# EAGLE library part ET1011C2* (library NewSDR)
LSI Gigabit Ethernet Transceiver
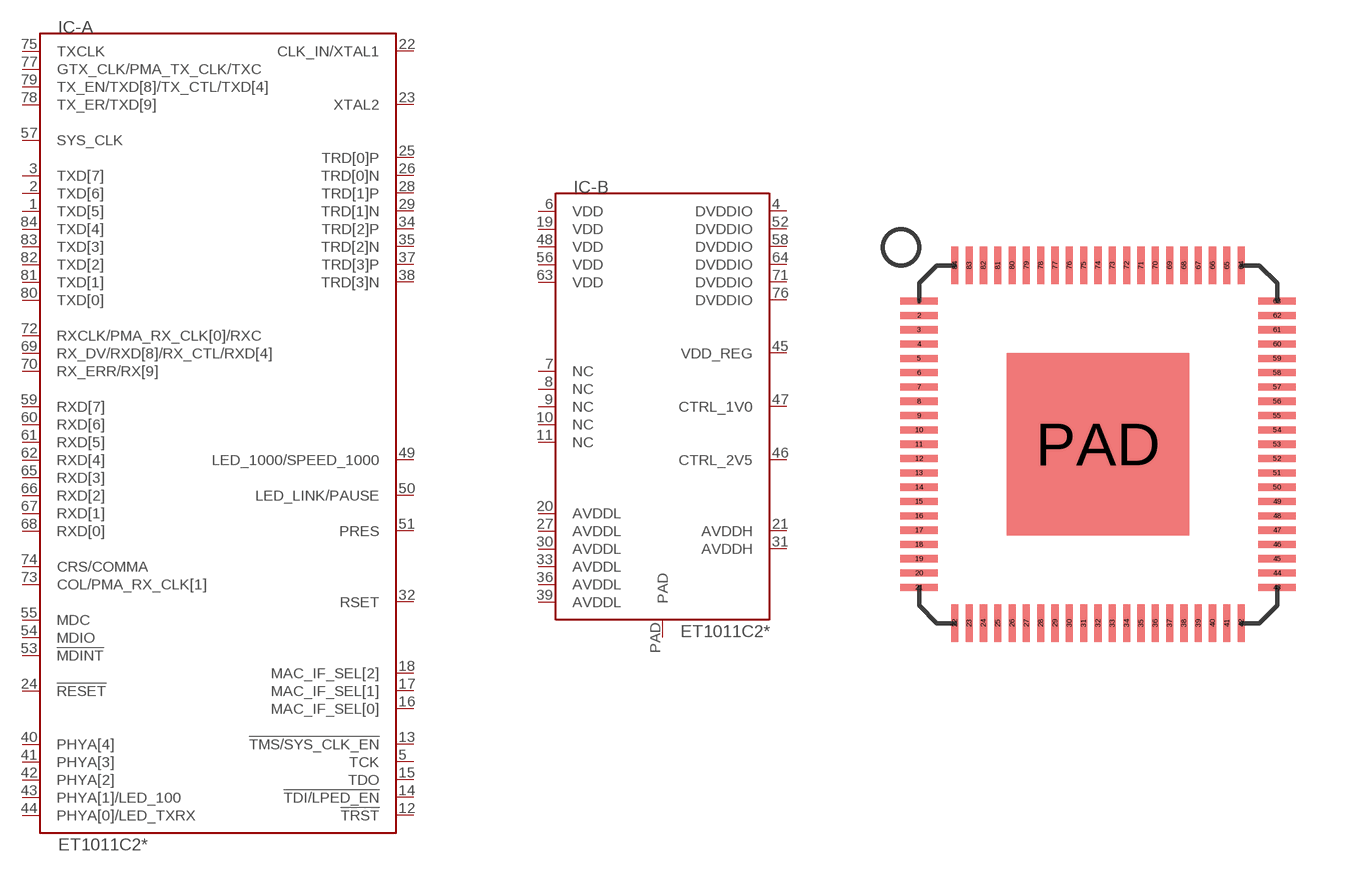
[diagram p171: symbol with the pads of QFN84(MLCC84); footprint QFN84(MLCC84)]

Designator prefix IC; gates -A=ET1011C2-SIG -B=ET1011C2-PWR

## ET1011C2-C-D, ET1011C2-CI-D  [QFN84(MLCC84)]
1  -A:TXD[5]  in
2  -A:TXD[6]  in
3  -A:TXD[7]  in
4  -B:DVDDIO  pwr
5  -A:TCK  in
6  -B:VDD  pwr
7  -B:NC  nc
8  -B:NC  nc
9  -B:NC  nc
10  -B:NC  nc
11  -B:NC  nc
12  -A:!TRST  in
13  -A:!TMS/SYS_CLK_EN
14  -A:!TDI/LPED_EN  in
15  -A:TDO  out
16  -A:MAC_IF_SEL[0]  in
17  -A:MAC_IF_SEL[1]  in
18  -A:MAC_IF_SEL[2]  in
19  -B:VDD  pwr
20  -B:AVDDL  pwr
21  -B:AVDDH  pwr
22  -A:CLK_IN/XTAL1  pas
23  -A:XTAL2  pas
24  -A:!RESET  in
25  -A:TRD[0]P
26  -A:TRD[0]N
27  -B:AVDDL  pwr
28  -A:TRD[1]P
29  -A:TRD[1]N
30  -B:AVDDL  pwr
31  -B:AVDDH  pwr
32  -A:RSET  pas
33  -B:AVDDL  pwr
34  -A:TRD[2]P
35  -A:TRD[2]N
36  -B:AVDDL  pwr
37  -A:TRD[3]P
38  -A:TRD[3]N
39  -B:AVDDL  pwr
40  -A:PHYA[4]  in
41  -A:PHYA[3]  in
42  -A:PHYA[2]  in
43  -A:PHYA[1]/LED_100
44  -A:PHYA[0]/LED_TXRX
45  -B:VDD_REG  pwr
46  -B:CTRL_2V5  out
47  -B:CTRL_1V0  out
48  -B:VDD  pwr
49  -A:LED_1000/SPEED_1000
50  -A:LED_LINK/PAUSE
51  -A:PRES
52  -B:DVDDIO  pwr
53  -A:!MDINT  out
54  -A:MDIO
55  -A:MDC  in
56  -B:VDD  pwr
57  -A:SYS_CLK  out
58  -B:DVDDIO  pwr
59  -A:RXD[7]  out
60  -A:RXD[6]  out
61  -A:RXD[5]  out
62  -A:RXD[4]  out
63  -B:VDD  pwr
64  -B:DVDDIO  pwr
65  -A:RXD[3]  out
66  -A:RXD[2]  out
67  -A:RXD[1]  out
68  -A:RXD[0]  out
69  -A:RX_DV/RXD[8]/RX_CTL/RXD[4]
70  -A:RX_ERR/RX[9]
71  -B:DVDDIO  pwr
72  -A:RXCLK/PMA_RX_CLK[0]/RXC  out
73  -A:COL/PMA_RX_CLK[1]  out
74  -A:CRS/COMMA  out
75  -A:TXCLK
76  -B:DVDDIO  pwr
77  -A:GTX_CLK/PMA_TX_CLK/TXC  in
78  -A:TX_ER/TXD[9]
79  -A:TX_EN/TXD[8]/TX_CTL/TXD[4]
80  -A:TXD[0]  in
81  -A:TXD[1]  in
82  -A:TXD[2]  in
83  -A:TXD[3]  in
84  -A:TXD[4]  in
PAD  -B:PAD  pwr

## Footprint QFN84(MLCC84) (pad centres in mm)
84-Pin QFN Quad Flat No-Lead
smd 1.05 x 0.2: 1 -5,4; 2 -5,3.6; 3 -5,3.2; 4 -5,2.8; 5 -5,2.4; 6 -5,2; 7 -5,1.6; 8 -5,1.2; 9 -5,0.8; 10 -5,0.4; 11 -5,0; 12 -5,-0.4; 13 -5,-0.8; 14 -5,-1.2; 15 -5,-1.6; 16 -5,-2; 17 -5,-2.4; 18 -5,-2.8; 19 -5,-3.2; 20 -5,-3.6; 21 -5,-4; 43 5,-4; 44 5,-3.6; 45 5,-3.2; 46 5,-2.8; 47 5,-2.4; 48 5,-2; 49 5,-1.6; 50 5,-1.2; 51 5,-0.8; 52 5,-0.4; 53 5,0; 54 5,0.4; 55 5,0.8; 56 5,1.2; 57 5,1.6; 58 5,2; 59 5,2.4; 60 5,2.8; 61 5,3.2; 62 5,3.6; 63 5,4
smd 0.2 x 1.05: 22 -4,-5; 23 -3.6,-5; 24 -3.2,-5; 25 -2.8,-5; 26 -2.4,-5; 27 -2,-5; 28 -1.6,-5; 29 -1.2,-5; 30 -0.8,-5; 31 -0.4,-5; 32 0,-5; 33 0.4,-5; 34 0.8,-5; 35 1.2,-5; 36 1.6,-5; 37 2,-5; 38 2.4,-5; 39 2.8,-5; 40 3.2,-5; 41 3.6,-5; 42 4,-5; 64 4,5; 65 3.6,5; 66 3.2,5; 67 2.8,5; 68 2.4,5; 69 2,5; 70 1.6,5; 71 1.2,5; 72 0.8,5; 73 0.4,5; 74 0,5; 75 -0.4,5; 76 -0.8,5; 77 -1.2,5; 78 -1.6,5; 79 -2,5; 80 -2.4,5; 81 -2.8,5; 82 -3.2,5; 83 -3.6,5; 84 -4,5
smd 5.1 x 5.1: PAD 0,0